# Altium integrated library Headers.IntLib: 7 symbols
Pins are listed as number, name and electrical type; pins without a type are passive.

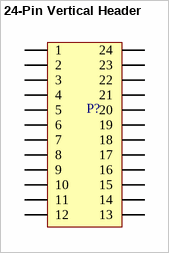
[diagram p0: symbol 24-Pin Vertical Header]

## 24-Pin Vertical Header
designator P?  (value not drawn)
Manufacturer: Sullins; Manufacturer No.: PPPC132LFBN-RC
footprint 24-Pin Vertical Header
pins: 1, 2, 3, 4, 5, 6, 7, 8, 9, 10, 11, 12, 13, 14, 15, 16, 17, 18, 19, 20, 21, 22, 23, 24


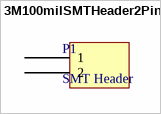
[diagram p1: symbol 3M100milSMTHeader2Pin]

## 3M100milSMTHeader2Pin
designator P1, comment SMT Header
footprint 3M100milSMTHeader2Pin
pins: 1, 2


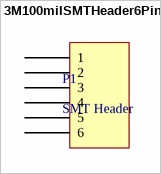
[diagram p2: symbol 3M100milSMTHeader6Pin]

## 3M100milSMTHeader6Pin
designator P1, comment SMT Header
footprint 3M100milSMTHeader6Pin
pins: 1, 2, 3, 4, 5, 6


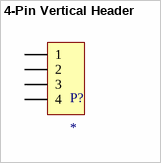
[diagram p3: symbol 4-Pin Vertical Header]

## 4-Pin Vertical Header
designator P?
Manufacturer: Sullins; Manufacturer No.: PPPC041LFBN-RC
footprint 4-Pin Vertical Header
footprint 4-Pin Vertical Header
pins: 1, 2, 3, 4


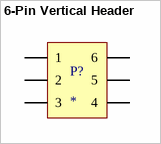
[diagram p4: symbol 6-Pin Vertical Header]

## 6-Pin Vertical Header
designator P?
Manufacturer: Sullins; Manufacturer ID: PPPC032LFBN-RC
footprint 6-Pin Vertical Header
pins: 1, 2, 3, 4, 5, 6


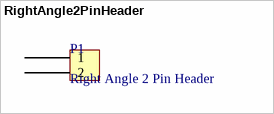
[diagram p5: symbol RightAngle2PinHeader]

## RightAngle2PinHeader
designator P1, comment Right Angle 2 Pin Header
footprint RightAnglePinHeader
pins: 1, 2


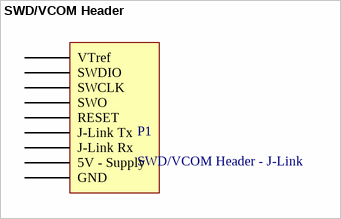
[diagram p6: symbol SWD/VCOM Header]

## SWD/VCOM Header
designator P1, comment SWD/VCOM Header - J-Link
footprint 20 Pin 100 Mil Shrouded header with key (TST-110-01-G-D)
pins: 1 VTref, 4 GND, 5 J-Link Tx, 6 GND, 7 SWDIO, 8 GND, 9 SWCLK, 10 GND, 12 GND, 13 SWO, 15 RESET, 17 J-Link Rx, 19 5V - Supply